# EAGLE library part LM386 (library mb3_integrated circuits)
LM386 LM386: http://smallbear-electronics.mybigcommerce.com/ic-lm386-n3/
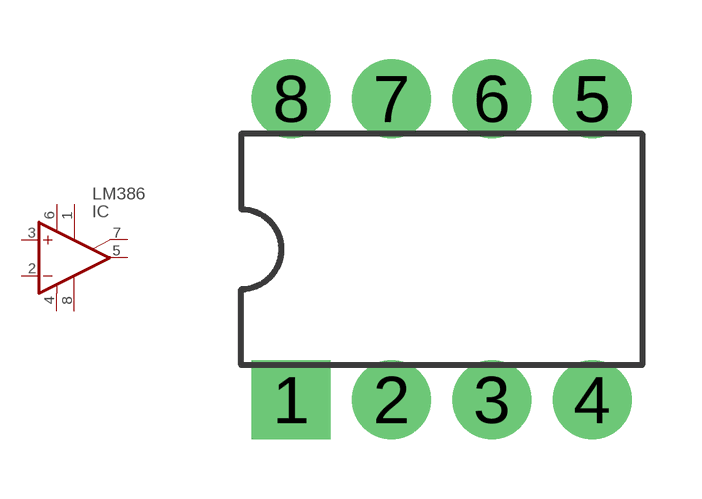
[diagram p19: symbol with the pads of DIP08; footprint DIP08]

Designator prefix IC

## LM386  [DIP08]
1  GAIN1  pas
2  -IN  in
3  +IN  in
4  V-  pwr
5  OUT  out
6  V+  pwr
7  BYPASS  pas
8  GAIN2  pas

## Footprint DIP08 (pad centres in mm)
Dual In Line Package
drill 1 pad 2 square: 1 -3.81,-3.81
drill 1 pad 2: 2 -1.27,-3.81; 3 1.27,-3.81; 4 3.81,-3.81; 5 3.81,3.81; 6 1.27,3.81; 7 -1.27,3.81; 8 -3.81,3.81